# EAGLE library part DS1621+ (library ds1621p)
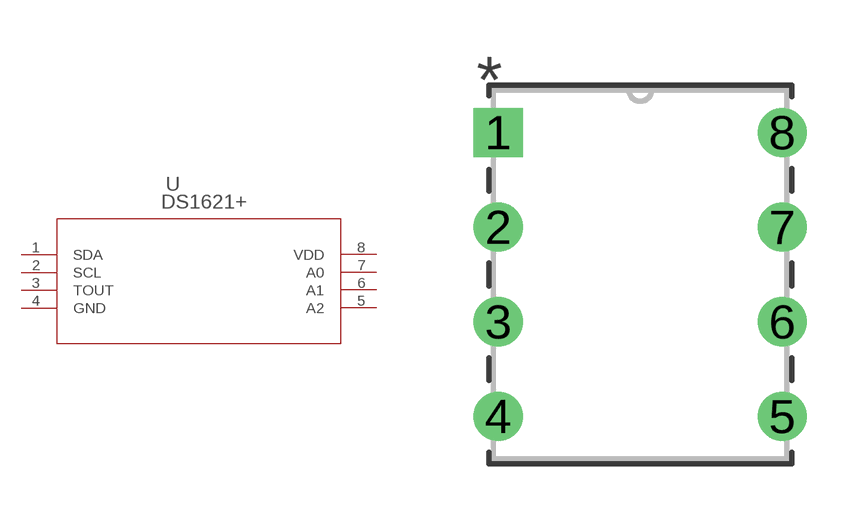
[diagram p0: symbol with the pads of 21-0043D_8; footprint 21-0043D_8]

Designator prefix U

## DS1621+ (MANUFACTURER_PART_NUMBER: DS1621+; VENDOR: Maxim Integrated Products)  [21-0043D_8]
1  SDA
2  SCL
3  TOUT  out
4  GND  pwr
5  A2  in
6  A1  in
7  A0  in
8  VDD  pwr

## Footprint 21-0043D_8 (pad centres in mm)
drill 0.813 pad 1.321 square: 1 -7.62,7.62
drill 0.813 pad 1.321: 2 -7.62,5.08; 3 -7.62,2.54; 4 -7.62,0; 5 0,0; 6 0,2.54; 7 0,5.08; 8 0,7.62